# EAGLE library part 74LVC2G74 (library yapo)
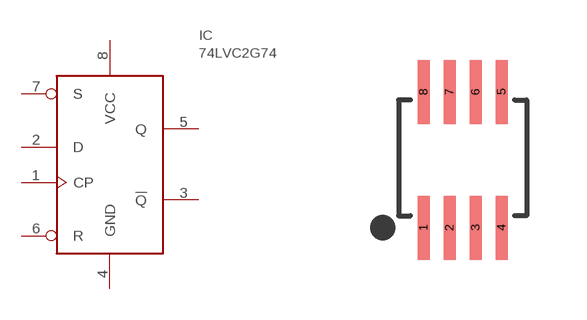
[diagram p63: symbol with the pads of SSOP8; footprint SSOP8]

Designator prefix IC

## 74LVC2G74  [SSOP8]
1  CP
2  D
3  !Q!
4  GND
5  Q
6  R
7  S
8  VCC

## Footprint SSOP8 (pad centres in mm)
smd 0.3 x 1.6: 1 -0.975,-1.7; 2 -0.325,-1.7; 3 0.325,-1.7; 4 0.975,-1.7; 5 0.975,1.7; 6 0.325,1.7; 7 -0.325,1.7; 8 -0.975,1.7